# Altium footprint library TP4056 Board.PcbLib: 1 footprints
Each footprint in its own frame and in the unit in brackets; x right, y up, seen from the top. Pads: shape width x height; smd on the part's side, far side on the other; paste and mask are expansions set on the pad; w line width, h text height; cw(c..) or ccw(c..) is an arc to the next point about the centre after c.
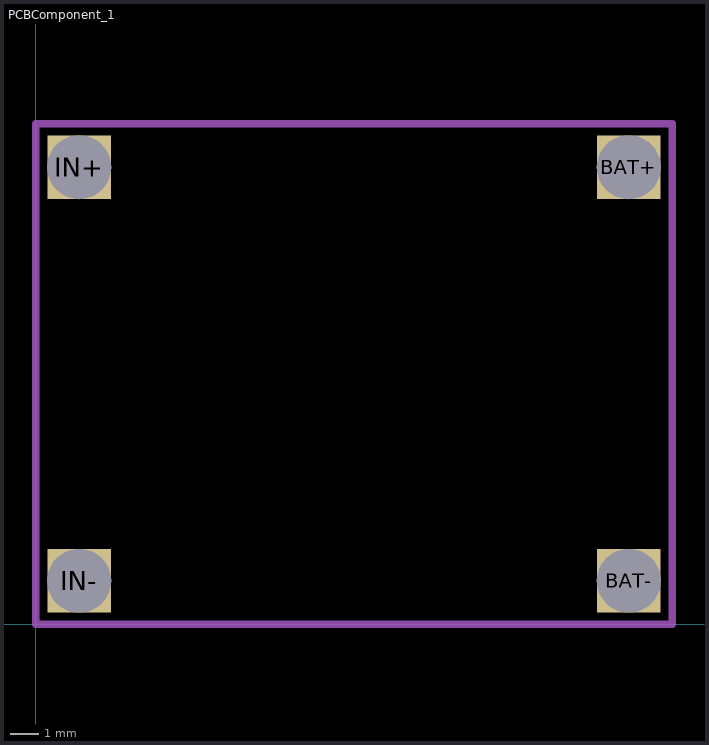
[diagram p0: the footprint, top view; thin cyan lines are the x and y axes]

## PCBComponent_1 [mm]
pads (4):
  rect 2.2x2.2 hole 2.2: BAT+(20.5,15.8) BAT-(20.5,1.5) IN+(1.5,15.8) IN-(1.5,1.5)
Mechanical 1:
  lines w0.254: 0,0 22,0 22,17.3 0,17.3 0,0